# Altium integrated library Integrated_Library1.IntLib: 2 symbols
Pins are listed as number, name and electrical type; pins without a type are passive.

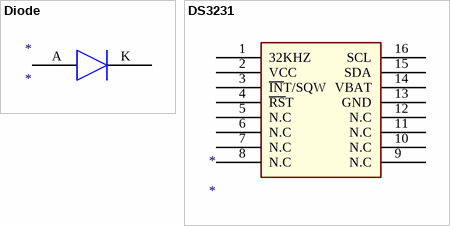
[diagram p0: symbols Diode to DS3231]

## Diode
designator *
footprint Diode
pins: A 3, K 4

## DS3231
designator *
footprint SO16
pins: 1 32KHZ, 2 VCC, 3 ~{IN}T/SQW, 4 ~{RS}T, 5 N.C, 6 N.C, 7 N.C, 8 N.C, 9 N.C, 10 N.C, 11 N.C, 12 N.C, 13 GND, 14 VBAT, 15 SDA, 16 SCL